# EAGLE library part NCP5111PG (library NCP5111PG)
ON Semiconductor NCP5111PG, Dual MOSFET Power Driver 500mA Half Bridge, 10 20 V, Inverting, 8-Pin PDIP Source: Datasheet <http://www.onsemi.com/pub/Collateral/NCP5111-D.PDF>
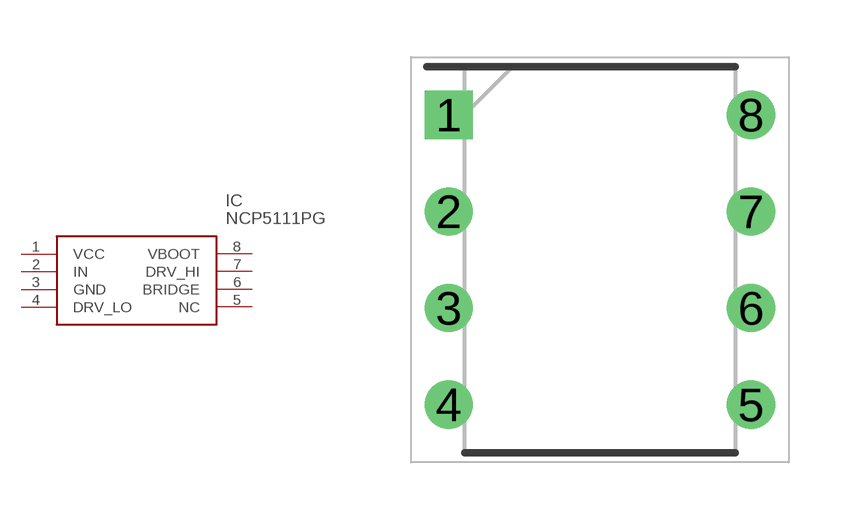
[diagram p0: symbol with the pads of DIP794W56P254L959H533Q8N; footprint DIP794W56P254L959H533Q8N]

Designator prefix IC

## NCP5111PG (Description: ON Semiconductor NCP5111PG, Dual MOSFET Power Driver 500mA Half Bridge, 10 20 V, Inverting, 8-Pin PDIP; Height: 5.33mm; Manufacturer_Name: ON Semiconductor; Manufacturer_Part_Number: NCP5111PG; Mouser_Part_Number: 863-NCP5111PG; Mouser_Price-Stock: https://www.mouser.com/Search/Refine.aspx?Keyword=863-NCP5111PG)  [DIP794W56P254L959H533Q8N]
1  VCC
2  IN
3  GND
4  DRV_LO
5  NC  nc
6  BRIDGE
7  DRV_HI
8  VBOOT

## Footprint DIP794W56P254L959H533Q8N (pad centres in mm)
pdip-08
drill 0.76 pad 1.16 square: 1 -3.97,3.81
drill 0.76 pad 1.16: 2 -3.97,1.27; 3 -3.97,-1.27; 4 -3.97,-3.81; 5 3.97,-3.81; 6 3.97,-1.27; 7 3.97,1.27; 8 3.97,3.81